# EAGLE library part LM3150 (library everykey)
TI synchronous buck controller
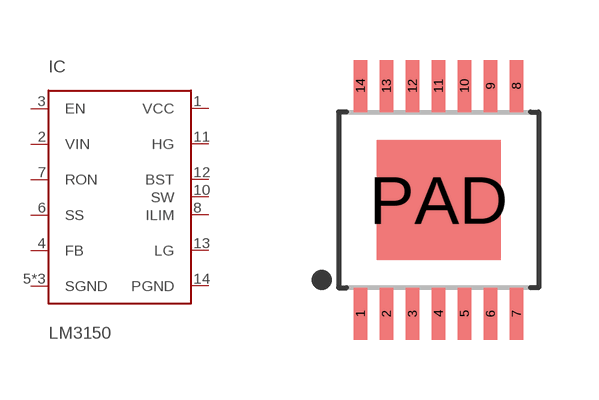
[diagram p76: symbol with the pads of TSSOP14-0.65-EP; footprint TSSOP14-0.65-EP]

Designator prefix IC

## LM3150TSSOP-EP  [TSSOP14-0.65-EP]
1  VCC  pwr
2  VIN  pwr
3  EN  in
4  FB  in
5  SGND  pwr
6  SS  in
7  RON  in
8  ILIM  in
9  SGND  pwr
10  SW  in
11  HG  out
12  BST  in
13  LG  out
14  PGND  pwr
PAD  SGND  pwr

## Footprint TSSOP14-0.65-EP (pad centres in mm)
TSSOP, 14 pin, 0.65mm pitch, 4.4mm body width, exposed pad. Optimized for 12mil process.
smd 0.33 x 1.3: 1 -1.95,-2.85; 2 -1.3,-2.85; 3 -0.65,-2.85; 4 0,-2.85; 5 0.65,-2.85; 6 1.3,-2.85; 7 1.95,-2.85; 8 1.95,2.85; 9 1.3,2.85; 10 0.65,2.85; 11 0,2.85; 12 -0.65,2.85; 13 -1.3,2.85; 14 -1.95,2.85
smd 3.1 x 3: PAD 0,0